# Altium schematic symbol library DW03.SchLib: 1 symbol
Pins are listed as number, name and electrical type; pins without a type are passive.

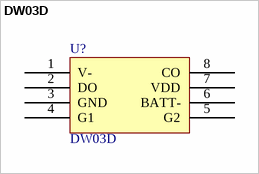
[diagram p0: symbol DW03D]

## DW03D
designator U?
2-in-1 lithium battery protection IC; ComponentLink1Description: Datasheet; ComponentLink1URL: https://pdf1.alldatasheet.com/datasheet-pdf/view/1143778/FUMAN/DW03D.html
footprint TI MSOP-8 DGS (MSOP, 8-Leads, Body 3.00x4.40mm, Pitch 0.65mm, IPC Medium Density)
pins: 1 V-, 2 DO, 3 GND, 4 G1, 5 G2, 6 BATT-, 7 VDD, 8 CO